# Altium schematic symbol library KSZ8081RNA.Schlib: 1 symbol
Pins are listed as number, name and electrical type; pins without a type are passive.

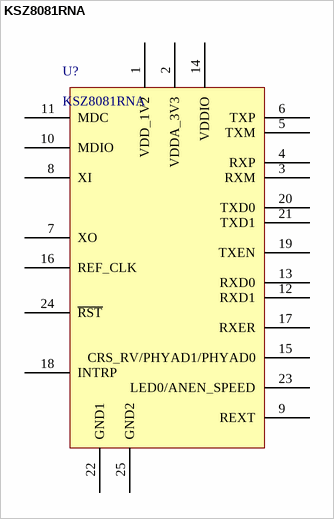
[diagram p0: symbol KSZ8081RNA]

## KSZ8081RNA
designator U?
TXRX PHY 10/100 3.3V 24QFN
pins: 1 VDD_1V2 (power), 2 VDDA_3V3 (power), 3 RXM, 4 RXP, 5 TXM, 6 TXP, 7 XO, 8 XI, 9 REXT, 10 MDIO, 11 MDC, 12 RXD1, 13 RXD0, 14 VDDIO (power), 15 CRS_RV/PHYAD1/PHYAD0, 16 REF_CLK, 17 RXER, 18 INTRP, 19 TXEN, 20 TXD0, 21 TXD1, 22 GND1 (power), 23 LED0/ANEN_SPEED, 24 ~{RST}, 25 GND2 (power)